# Altium footprint library SSOP-5.PcbLib: 1 footprints
Each footprint in its own frame and in the unit in brackets; x right, y up, seen from the top. Pads: shape width x height; smd on the part's side, far side on the other; paste and mask are expansions set on the pad; w line width, h text height; cw(c..) or ccw(c..) is an arc to the next point about the centre after c.
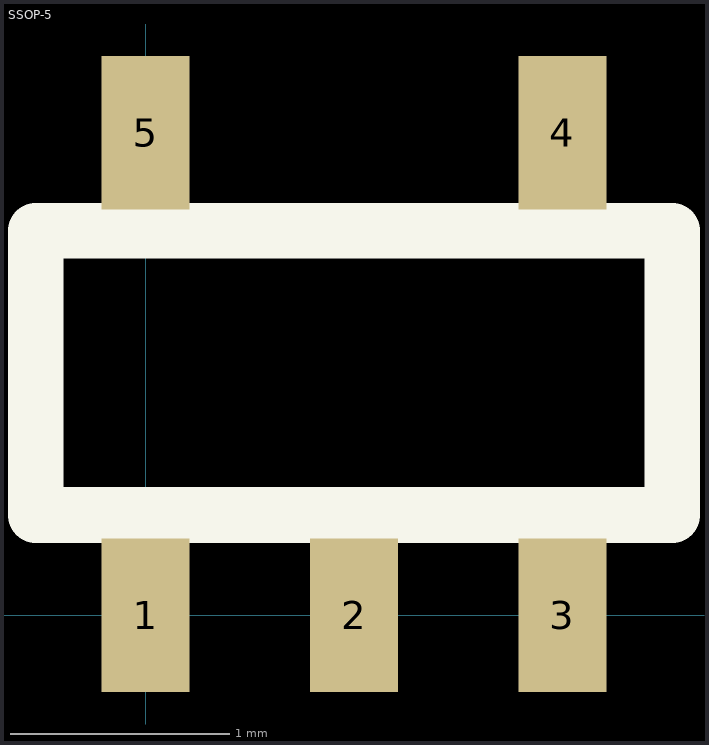
[diagram p0: the footprint, top view; thin cyan lines are the x and y axes]

## SSOP-5 [mm]
pads (5):
  rect 0.4x0.7 smd: 1(0,0) 2(0.95,0) 3(1.9,0) 4(1.9,2.2) 5(0,2.2)
TopOverlay:
  lines w0.254: -0.5,0.457 2.4,0.457 2.4,1.753 -0.5,1.753 -0.5,0.457